# Altium schematic symbol library Reg LDO.SCHLIB: 57 symbols (part 2 of 2)
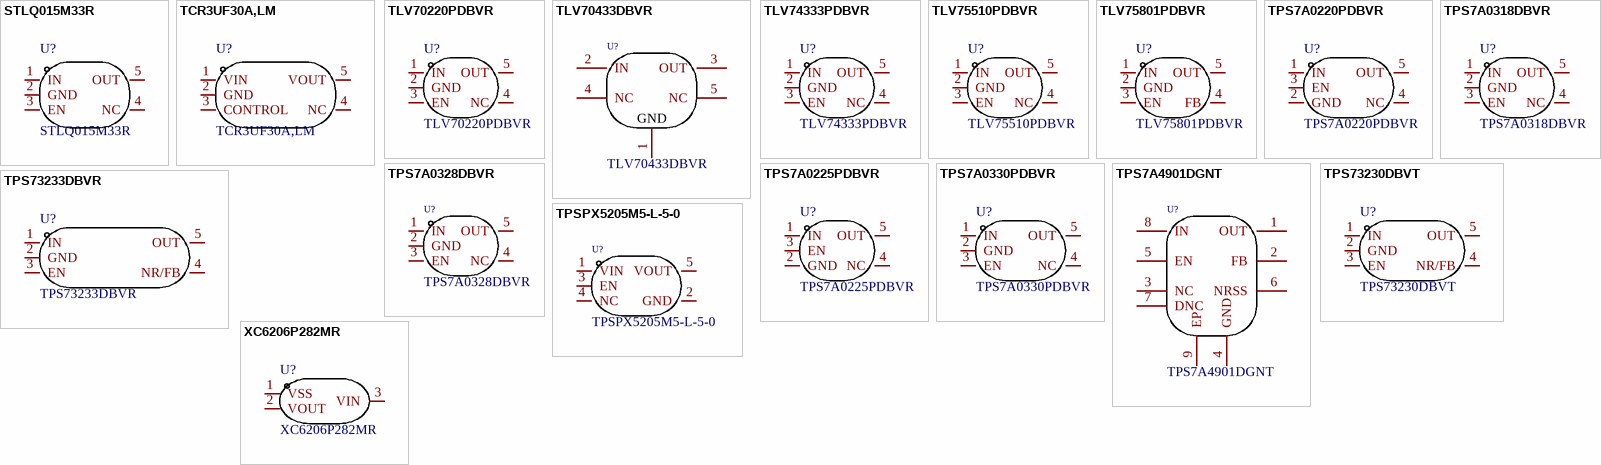
[diagram p2: symbols STLQ015M33R to XC6206P282MR]

## TPS73230DBVT
designator U?
Manufacturer: TI(德州仪器); Add into BOM: yes; Name: TPS73230DBVT; Symbol: TPS73230DBVT; Device: TPS73230DBVT; LCSC Part Name: TPS73230DBVT; Supplier Part: C2860529; Manufacturer Part: TPS73230DBVT; Supplier Footprint: SOT-23-5; JLCPCB Part Class: Extended Part; Datasheet: https://atta.szlcsc.com/upload/public/pdf/source/20230221/5DF306C90E60C6C84CD2FC73822D6F64.pdf; Supplier: LCSC; Convert to PCB: yes
footprint SOT-23-5_L3.0-W1.6-P0.95-LS2.8-BR
3D model SOT-23-5_L3.0-W1.6-P0.95-LS2.8-BR
pins: 1 IN, 2 GND, 3 EN, 4 NR/FB, 5 OUT

## TPS73233DBVR
designator U?
Output Type: Output Polarity:Positive Number of Outputs:1 Maximum Input Voltage:5.5V Output Voltage:3.3V~3.3V Output Voltage:3.3V~3.3V Dropout Voltage:150mV@(250mA) Output Current:250mA Power Supply Rejection Ratio (PSRR):58dB@(100Hz),37dB@(10kHz); Manufacturer: TI(德州仪器); Add into BOM: yes; Number of Outputs: 1; Maximum Input Voltage: 5.5V; Name: TPS73233DBVR; Symbol: TPS73233DBVR; Device: TPS73233DBVR; LCSC Part Name: TPS73233DBVR; Supplier Part: C181459; Manufacturer Part: TPS73233DBVR; Supplier Footprint: SOT-23-5; JLCPCB Part Class: Extended Part; Datasheet: https://atta.szlcsc.com/upload/public/pdf/source/20180227/C181459_15196975656281370029.pdf; Supplier: LCSC; Convert to PCB: yes; Output Polarity: Positive; Output Voltage: 3.3V~3.3V; Dropout Voltage: 150mV@(250mA); Output Current: 250mA; Power Supply Rejection Ratio (PSRR): 58dB@(100Hz),37dB@(10kHz)
footprint SOT-23-5_L3.0-W1.7-P0.95-LS2.8-BL
3D model SOT-23-5_L2.9-W1.6-H1.1-LS2.8-P0.95
pins: 1 IN, 2 GND, 3 EN, 4 NR/FB, 5 OUT

## TPSPX5205M5-L-5-0
designator U?
Manufacturer: TECH PUBLIC(台舟); Add into BOM: yes; Name: TPSPX5205M5-L-5-0; Symbol: TPSPX5205M5-L-5-0; Device: TPSPX5205M5-L-5-0; LCSC Part Name: TPSPX5205M5-L-5-0; Supplier Part: C5370982; Manufacturer Part: TPSPX5205M5-L-5-0; Supplier Footprint: SOT-23-5; Datasheet: https://atta.szlcsc.com/upload/public/pdf/source/20230314/778FFEDB7F5852BB1D83301F20D70D6C.pdf; Supplier: LCSC; Convert to PCB: yes; link: https://atta.szlcsc.com/upload/public/pdf/source/20230314/778FFEDB7F5852BB1D83301F20D70D6C.pdf
footprint SOT-23-5_L3.0-W1.6-P0.95-LS2.8-BR
3D model SOT-23-5_L3.0-W1.6-P0.95-LS2.8-BR
pins: 1 VIN, 2 GND, 3 EN, 4 NC, 5 VOUT

## XC6206P282MR
designator U?
Manufacturer: PUOLOP(迪浦); Symbol: XC6206P282MR_C479055; Add into BOM: yes; Name: XC6206P282MR; Device: XC6206P282MR; LCSC Part Name: XC6206P282MR; Supplier Part: C479055; Manufacturer Part: XC6206P282MR; Supplier Footprint: SOT-23-3L; JLCPCB Part Class: Extended Part; Datasheet: https://atta.szlcsc.com/upload/public/pdf/source/20200102/C479055_2E3B299416DD05802C7D639D54159E90.pdf; Supplier: LCSC; Convert to PCB: yes
footprint SOT-23-3_L2.9-W1.6-P1.90-LS2.8-BR
3D model SOT-23-3L_L2.9-W1.6-H1.1-LS2.8-P0.95
pins: 1 VSS, 2 VOUT, 3 VIN